# Altium footprint library PCB - CAPACITOR - ALUMINIUM - CAP TH ALUM ELEC D18.00mm S7.50mm H37.50mm.PCBLIB: 1 footprints
Each footprint in its own frame and in the unit in brackets; x right, y up, seen from the top. Pads: shape width x height; smd on the part's side, far side on the other; paste and mask are expansions set on the pad; w line width, h text height; cw(c..) or ccw(c..) is an arc to the next point about the centre after c.
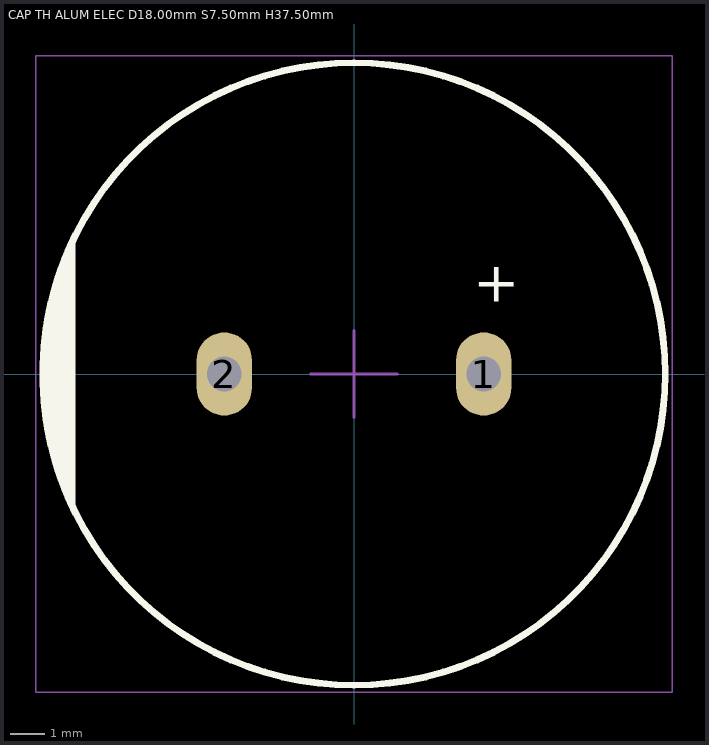
[diagram p0: the footprint, top view; thin cyan lines are the x and y axes]

## CAP TH ALUM ELEC D18.00mm S7.50mm H37.50mm [mm] "18mm Diameter 7.5mm Lead Spacing Aluminum Electrolytic Capacitors Radial, Can"
height 37.5
pads (2):
  oval 1.6x2.4 hole 1: 1(3.75,0) 2(-3.75,0)
Top Overlay:
  circle w0.2: c0,0 r9
  region: -8.157,-3.804 -8.295,-3.507 -8.528,-2.895 -8.716,-2.268 -8.858,-1.628 -8.952,-0.98 -9,-0.327 -9,0.327 -8.952,0.98 -8.858,1.628 -8.716,2.268 -8.528,2.895 -8.295,3.507 -8.157,3.804
  lines w0.2: -8.157,-3.804 cw(c0,0) -8.157,3.804 -8.157,-3.804
  text "+" at 3.45,1.7 h2
Mechanical 13:
  circle w0.1: c0,0 r9
  lines w0.1: -8.157,-3.804 -8.157,3.804
Mechanical 15:
  lines w0.05: -9.2,-9.2 9.2,-9.2 9.2,9.2 -9.2,9.2 -9.2,-9.2
  lines w0.1: -1.25,0 0,0 ; 0,-1.25 0,0 ; 0,1.25 0,0 ; 1.25,0 0,0
3D body "Cap TH D18.00mm H37.50mm L7.50mm.step": height 37.5, standoff -2.5, extent -9.01,-8.998 9,8.998